# EAGLE library part 4PDT (library Rebel)
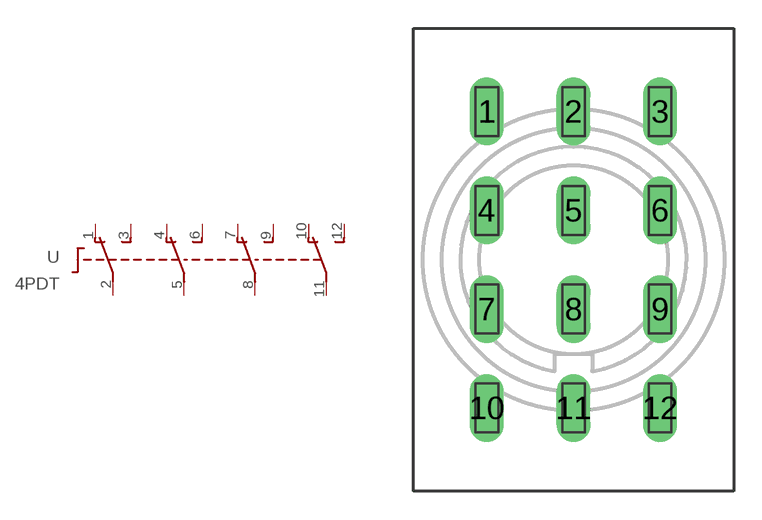
[diagram p5: symbol with the pads of 4PDT; footprint 4PDT]

Designator prefix -

## 4PDT  [4PDT]
1  O1  pas
2  P1  pas
3  S1  pas
4  O2  pas
5  P2  pas
6  S2  pas
7  O3  pas
8  P3  pas
9  S3  pas
10  O4  pas
11  P4  pas
12  S4  pas

## Footprint 4PDT (pad centres in mm)
drill 1.2 long: 1 -4.6,7.875; 2 0,7.875; 3 4.6,7.875; 4 -4.6,2.625; 5 0,2.625; 6 4.6,2.625; 7 -4.6,-2.625; 8 0,-2.625; 9 4.6,-2.625; 10 -4.6,-7.875; 11 0,-7.875; 12 4.6,-7.875